# Altium footprint library PMW3389_PCBlib.PcbLib: 3 footprints
Each footprint in its own frame and in the unit in brackets; x right, y up, seen from the top. Pads: shape width x height; smd on the part's side, far side on the other; paste and mask are expansions set on the pad; w line width, h text height; cw(c..) or ccw(c..) is an arc to the next point about the centre after c.
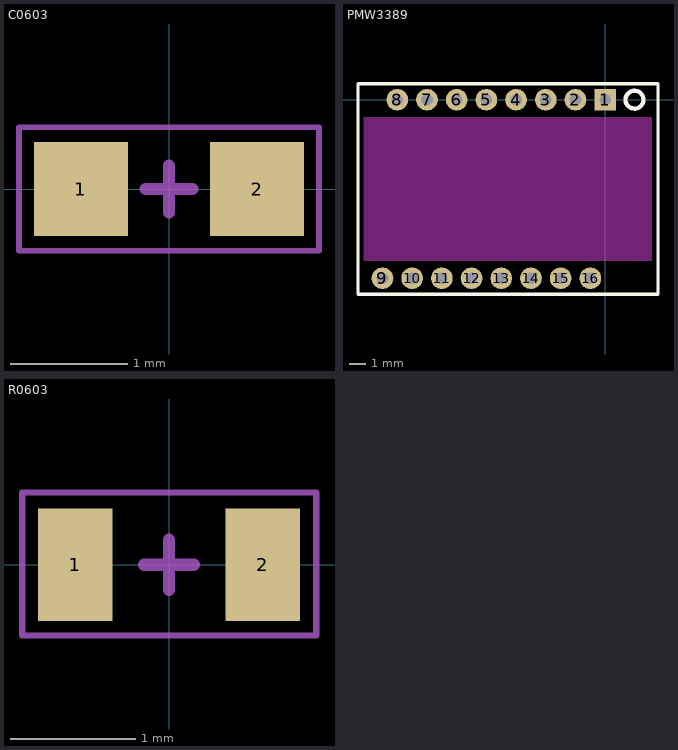
[diagram p0: the footprints below, top view; thin cyan lines are the x and y axes]

## C0603 [mm]
pads (2):
  rect 0.8x0.8 smd: 1(-0.75,0) 2(0.75,0)
Top Courtyard:
  lines w0.05: -1.277,-0.525 1.276,-0.525 1.276,0.525 -1.277,0.525 -1.277,-0.525
  lines w0.1: -0.2,0 0.2,0 ; 0,-0.2 0,0.2
3D body "User Library-C0603-2.STEP": height 0.8, standoff 0, extent -0.8,-0.4 0.8,0.4

## PMW3389 [mm] "PMW3389"
pads (16):
  rect 1.3x1.3 hole 0.7: 1(0,0)
  round 1.3 hole 0.7: 2(-1.78,0) 3(-3.56,0) 4(-5.34,0) 5(-7.12,0) 6(-8.9,0) 7(-10.68,0) 8(-12.46,0) 9(-13.35,-10.7) 10(-11.57,-10.7) 11(-9.79,-10.7) 12(-8.01,-10.7) 13(-6.23,-10.7) 14(-4.45,-10.7) 15(-2.67,-10.7) 16(-0.89,-10.7)
Top Overlay:
  circle w0.254: c1.759,0.004 r0.537
  lines w0.2: -14.816,-11.65 -14.816,0.95 3.166,0.95 3.166,-11.65 -14.816,-11.65
Keep-Out Layer:
  board cut-out: 2.78,-1.05 2.78,-9.65 -14.48,-9.65 -14.48,-1.05
3D body: height 3.5, standoff 0, extent -14.48,-9.65 2.78,-1.05

## R0603 [mm]
pads (2):
  rect 0.6x0.9 smd: 1(-0.75,0) 2(0.75,0)
Top Courtyard:
  lines w0.05: -1.174,-0.566 1.179,-0.566 1.179,0.58 -1.174,0.58 -1.174,-0.566
  lines w0.1: -0.2,0 0.2,0 ; 0,-0.2 0,0.2
3D body "User Library-R_0603.STEP": height 0.5, standoff 0, extent -0.8,-0.45 0.8,0.45